# Altium schematic symbol library STM8L152K4T6.SchLib: 1 symbol
Pins are listed as number, name and electrical type; pins without a type are passive.

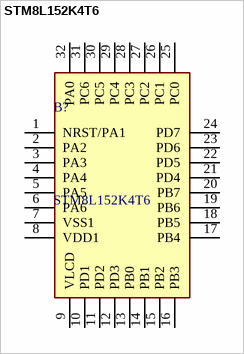
[diagram p0: symbol STM8L152K4T6]

## STM8L152K4T6
designator B?
STM8L152K4T6, 8 bit STM8 Microcontroller 16MHz 1 kB, 16 kB Flash, 2 kB RAM, I2C 32-Pin LQFP; Manufacturer_Name: STMicroelectronics; Geometry.Height: 1.6mm; Manufacturer_Part_Number: STM8L152K4T6; Mouser Part Number: 511-STM8L152K4T6; Mouser Price/Stock: https://www.mouser.co.uk/ProductDetail/STMicroelectronics/STM8L152K4T6?qs=H8t2elxe2QfRIfda8XwgVw%3D%3D; Arrow Part Number: STM8L152K4T6; Arrow Price/Stock: https://www.arrow.com/en/products/stm8l152k4t6/stmicroelectronics; Datasheet Link: http://www.st.com/st-web-ui/static/active/en/resource/technical/document/datasheet/CD00240181.pdf
footprint QFP80P900X900X160-32N
pins: 1 NRST/PA1, 2 PA2, 3 PA3, 4 PA4, 5 PA5, 6 PA6, 7 VSS1, 8 VDD1, 9 VLCD, 10 PD1, 11 PD2, 12 PD3, 13 PB0, 14 PB1, 15 PB2, 16 PB3, 17 PB4, 18 PB5, 19 PB6, 20 PB7, 21 PD4, 22 PD5, 23 PD6, 24 PD7, 25 PC0, 26 PC1, 27 PC2, 28 PC3, 29 PC4, 30 PC5, 31 PC6, 32 PA0